# Altium footprint library 封装库.PcbLib: 3 footprints
Each footprint in its own frame and in the unit in brackets; x right, y up, seen from the top. Pads: shape width x height; smd on the part's side, far side on the other; paste and mask are expansions set on the pad; w line width, h text height; cw(c..) or ccw(c..) is an arc to the next point about the centre after c.
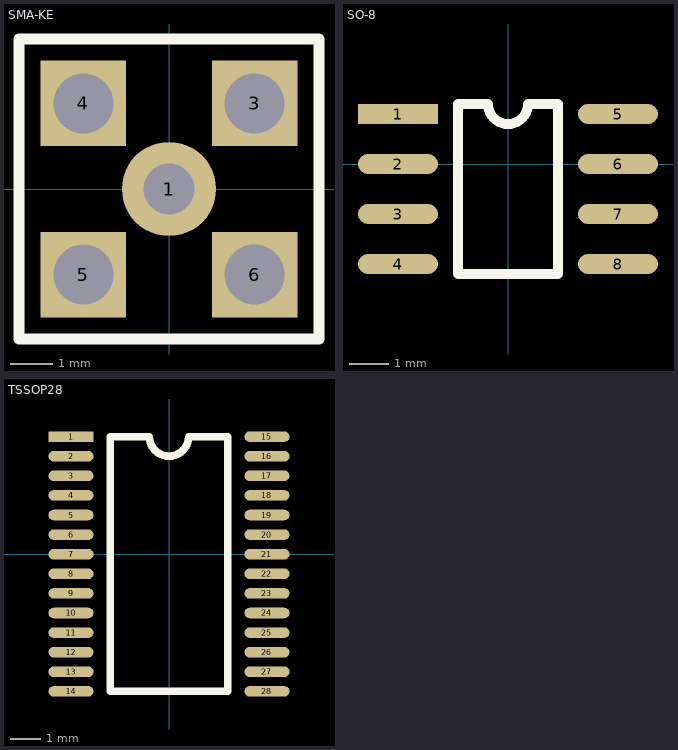
[diagram p0: the footprints below, top view; thin cyan lines are the x and y axes]

## SMA-KE [mm]
pads (5):
  round 2.2 hole 1.2: 1(0,0)
  rect 2x2 hole 1.4: 3(2,2) 4(-2,2) 5(-2,-2) 6(2,-2)
Top Overlay:
  lines w0.254: -3.5,-3.5 3.5,-3.5 3.5,3.5 -3.5,3.5 -3.5,-3.5

## SO-8 [mil]
pads (8):
  rect 80x20 smd: 1(-110,50)
  oval 80x20 smd: 2(-110,0) 3(-110,-50) 4(-110,-100) 5(110,50) 6(110,0) 7(110,-50) 8(110,-100)
Top Overlay:
  lines w10: -50,-110 50,-110 50,60 20,60 cw(c0,60) 0,40 cw(c0,60) -20,60 -50,60 -50,-110

## TSSOP28 [mm]
pads (28):
  rect 1.5x0.35 smd: 1(-3.25,3.9)
  oval 1.5x0.35 smd: 2(-3.25,3.25) 3(-3.25,2.6) 4(-3.25,1.95) 5(-3.25,1.3) 6(-3.25,0.65) 7(-3.25,0) 8(-3.25,-0.65) 9(-3.25,-1.3) 10(-3.25,-1.95) 11(-3.25,-2.6) 12(-3.25,-3.25) 13(-3.25,-3.9) 14(-3.25,-4.55) 15(3.25,3.9) 16(3.25,3.25) 17(3.25,2.6) 18(3.25,1.95) 19(3.25,1.3) 20(3.25,0.65) 21(3.25,0) 22(3.25,-0.65) 23(3.25,-1.3) 24(3.25,-1.95) 25(3.25,-2.6) 26(3.25,-3.25) 27(3.25,-3.9) 28(3.25,-4.55)
Top Overlay:
  lines w0.254: -1.95,-4.55 -1.95,3.9 -0.65,3.9 ccw(c0,3.9) 0,3.25 ccw(c0,3.9) 0.65,3.9 1.95,3.9 1.95,-4.55 -1.95,-4.55